# Altium schematic symbol library ERJ-3EKF7872V.SchLib: 1 symbol
Pins are listed as number, name and electrical type; pins without a type are passive.

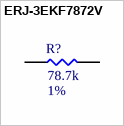
[diagram p0: symbol ERJ-3EKF7872V]

## ERJ-3EKF7872V
designator R?, comment Resistance: 78.7k  Tolerance: 1%  (hidden comment: 78.7k, 1%)
RES SMD 78.7K OHM 1% 1/10W 0603; MFR: Panasonic Electronic Components; Footprint: RES0603; Package: 0603; ComponentLink1Description: Datasheet; Power Rating: 1/10W; Supplier 1: Digi-Key; Supplier Part Number 1: P78.7KHCT-ND
footprint RES0603 (Generic 0603)
pins: 1, 2